# EAGLE library part MCP7940M-I/P (library Nixie)
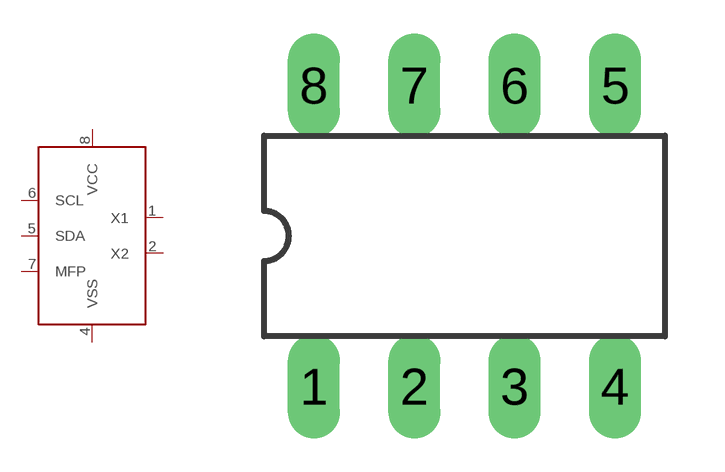
[diagram p2: symbol with the pads of DIL8; footprint DIL8]

Designator prefix IC

## MCP7940M-I/P  [DIL8]
1  X1
2  X2
4  VSS
5  SDA
6  SCL
7  MFP
8  VCC

## Footprint DIL8 (pad centres in mm)
Dual In Line package type P
drill 0.813 long: 1 -3.81,-3.81; 2 -1.27,-3.81; 3 1.27,-3.81; 4 3.81,-3.81; 5 3.81,3.81; 6 1.27,3.81; 7 -1.27,3.81; 8 -3.81,3.81